# EAGLE library part PWR_REG_TPS54531DDAR (library !GPLIB_ACTIVE)
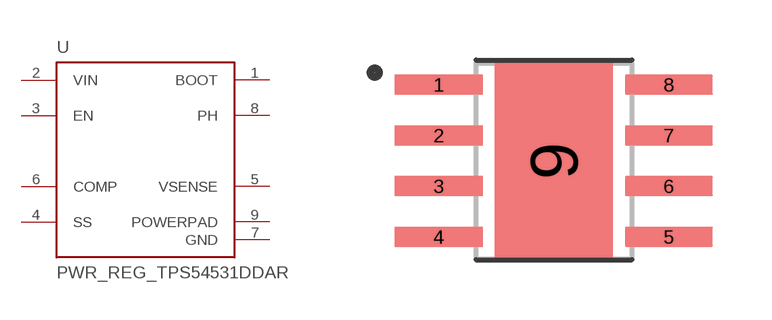
[diagram p51: symbol with the pads of CONV_TPS54531DDAR; footprint CONV_TPS54531DDAR]

Designator prefix U

## PWR_REG_TPS54531DDAR  [CONV_TPS54531DDAR]
1  BOOT  out
2  VIN  pwr
3  EN  in
4  SS  in
5  VSENSE  in
6  COMP  out
7  GND  pwr
8  PH  out
9  POWERPAD  pwr

## Footprint CONV_TPS54531DDAR (pad centres in mm)
smd 2.2 x 0.5: 1 -2.875,1.905; 2 -2.875,0.635; 3 -2.875,-0.635; 4 -2.875,-1.905; 5 2.875,-1.905; 6 2.875,-0.635; 7 2.875,0.635; 8 2.875,1.905
smd 2.95 x 4.9: 9 0,0